# Altium footprint library APSS Flight Parts.PcbLib: 80 footprints (part 3 of 5)
Each footprint in its own frame and in the unit in brackets; x right, y up, seen from the top. Pads: shape width x height; smd on the part's side, far side on the other; paste and mask are expansions set on the pad; w line width, h text height; cw(c..) or ccw(c..) is an arc to the next point about the centre after c.
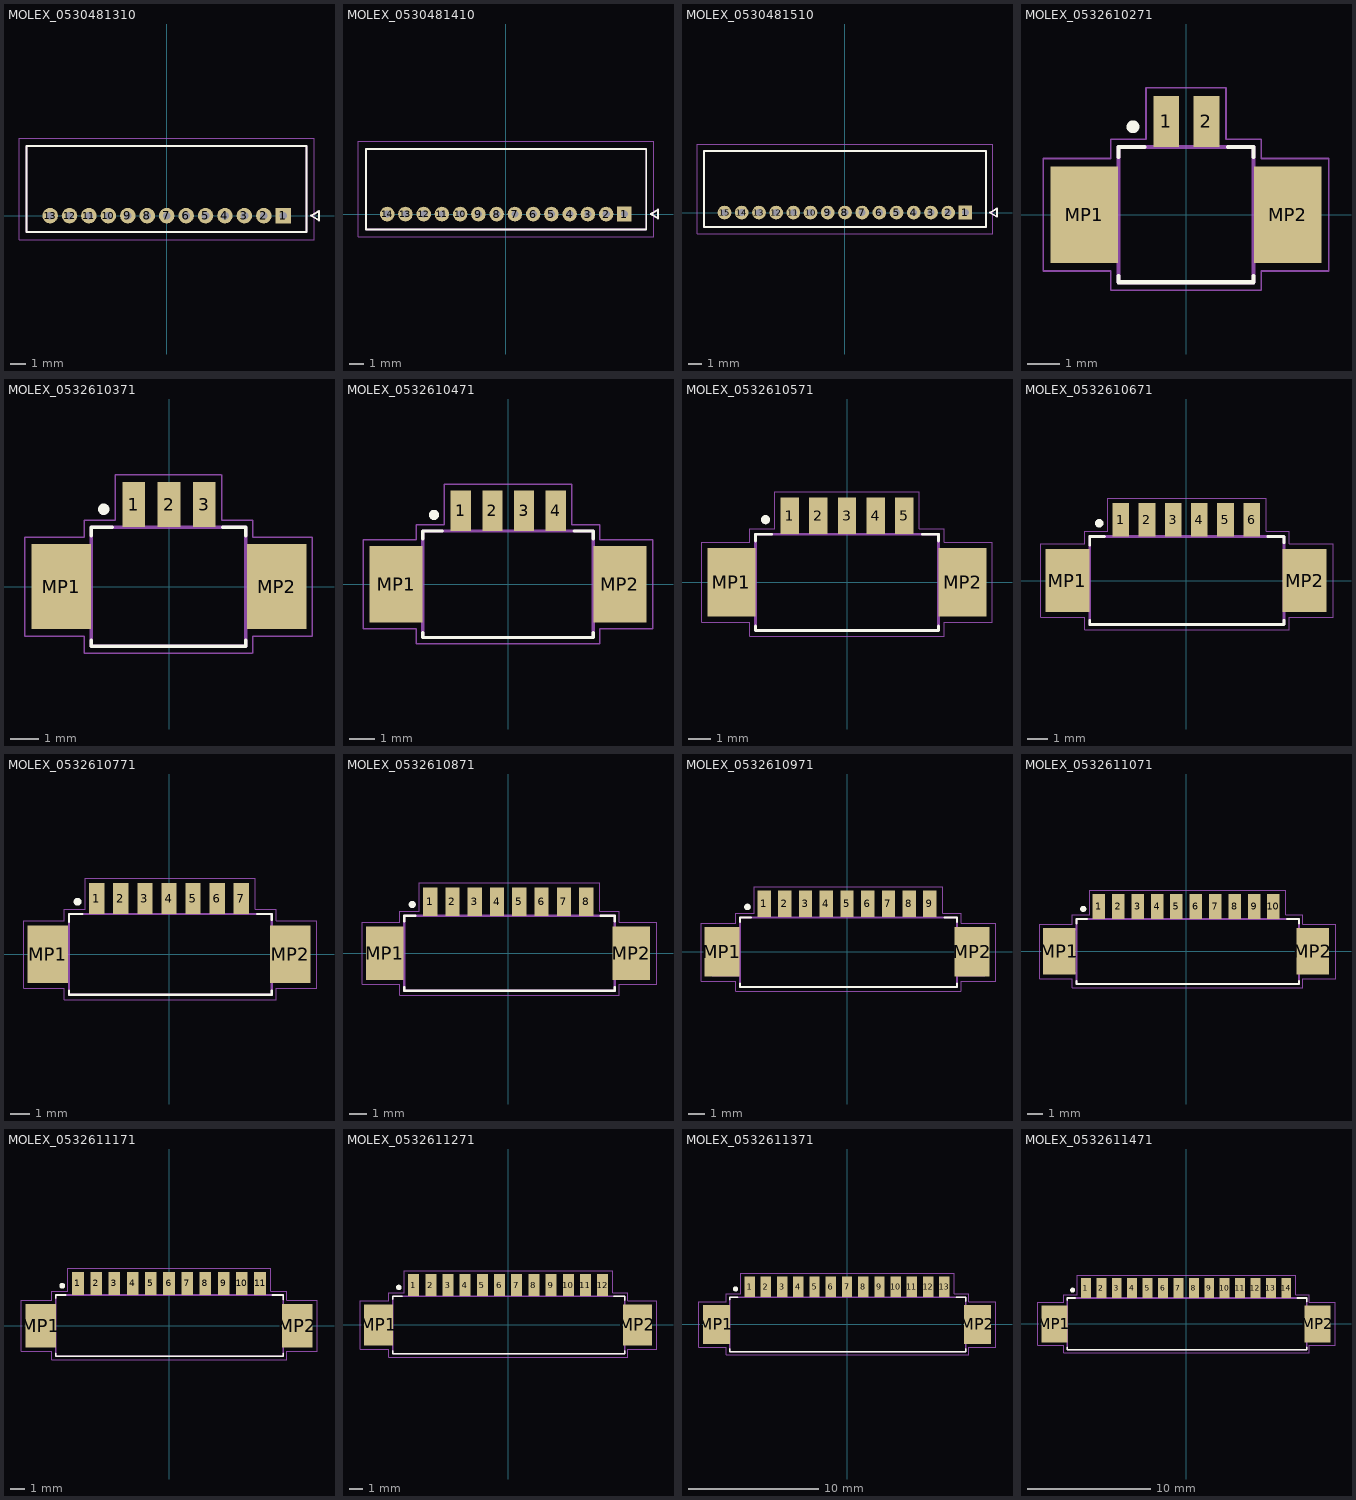
[diagram p2: the footprints below, top view; thin cyan lines are the x and y axes]

## MOLEX_0530481310 [mm] "Header - Picoblade 13-pin, TH, RA, 4.2mm height"
height 4.2
pads (13):
  rect 1x1 hole 0.5 mask+0.051: 1(7.5,0)
  round 1 hole 0.5 mask+0.051: 2(6.25,0) 3(5,0) 4(3.75,0) 5(2.5,0) 6(1.25,0) 7(0,0) 8(-1.25,0) 9(-2.5,0) 10(-3.75,0) 11(-5,0) 12(-6.25,0) 13(-7.5,0)
Top Overlay:
  lines w0.127: -9.01,-1.041 -9.01,4.47 9,4.47 9,-1.041 -9.01,-1.041 ; 9.3,0 9.8,0.3 9.8,-0.3 9.3,0
Mechanical 13:
  lines w0.127: -9.01,-1.041 -9.01,4.47 9,4.47 9,-1.041 -9.01,-1.041 ; 9.3,0 9.8,0.3 9.8,-0.3 9.3,0
Mechanical 15:
  lines w0.05: -9.5,-1.541 -9.5,4.97 9.5,4.97 9.5,-1.541 -9.5,-1.541
3D body "530481310.stp": height 3.51, standoff -2.29, extent -9.001,-1.041 8.999,4.459

## MOLEX_0530481410 [mm]
height 3.5
pads (14):
  rect 1x1 hole 0.5 mask+0.051: 1(8.125,0)
  round 1 hole 0.5 mask+0.051: 2(6.875,0) 3(5.625,0) 4(4.375,0) 5(3.125,0) 6(1.875,0) 7(0.625,0) 8(-0.625,0) 9(-1.875,0) 10(-3.125,0) 11(-4.375,0) 12(-5.625,0) 13(-6.875,0) 14(-8.125,0)
Top Overlay:
  lines w0.127: -9.575,-1.05 9.625,-1.05 9.625,4.45 -9.575,4.45 -9.575,-1.05 ; 9.925,0 10.425,-0.3 10.425,0.3 9.925,0
Mechanical 13:
  lines w0.127: -9.575,-1.05 9.625,-1.05 9.625,4.45 -9.575,4.45 -9.575,-1.05 ; 9.925,0 10.425,-0.3 10.425,0.3 9.925,0
Mechanical 15:
  lines w0.05: -10.125,-1.541 -10.125,4.97 10.125,4.97 10.125,-1.541 -10.125,-1.541
3D body "530481410.stp": height 3.56, standoff -2.23, extent -9.6,-1.05 9.65,4.45

## MOLEX_0530481510 [mm] "Header - Picoblade 15-pin, TH, RA, 4.2mm height"
height 4.2
pads (15):
  rect 1x1 hole 0.5 mask+0.051: 1(8.75,0)
  round 1 hole 0.5 mask+0.051: 2(7.5,0) 3(6.25,0) 4(5,0) 5(3.75,0) 6(2.5,0) 7(1.25,0) 8(0,0) 9(-1.25,0) 10(-2.5,0) 11(-3.75,0) 12(-5,0) 13(-6.25,0) 14(-7.5,0) 15(-8.75,0)
Top Overlay:
  lines w0.127: -10.249,-1.041 -10.249,4.47 10.25,4.47 10.25,-1.041 -10.249,-1.041 ; 10.55,0 11.05,-0.3 11.05,0.3 10.55,0
Mechanical 13:
  lines w0.127: -10.25,-1.041 -10.25,4.47 10.25,4.47 10.25,-1.041 -10.25,-1.041 ; 10.55,0 11.05,-0.3 11.05,0.3 10.55,0
Mechanical 15:
  lines w0.05: -10.75,-1.541 -10.75,4.97 10.75,4.97 10.75,-1.541 -10.75,-1.541
3D body "530481510.stp": height 3.51, standoff -2.29, extent -10.251,-1.048 10.249,4.452

## MOLEX_0532610271 [mm] "Header - Picoblade 02-pin, SMT, RA, 3.4mm height"
height 3.4
pads (4):
  rect 0.8x1.6 smd mask+0.051: 1(-0.625,2.9) 2(0.625,2.9)
  rect 2.1x3 smd mask+0.051: MP1(-3.175,0) MP2(3.155,0)
Top Overlay:
  circle w0.2: c-1.661,2.735 r0.1
  lines w0.127: -2.106,1.8 -2.106,2.1 -1.3,2.1 ; -2.105,-1.9 -2.105,-2.1 2.085,-2.1 2.085,-1.9 ; 1.3,2.1 2.085,2.1 2.085,1.8
Mechanical 13:
  lines w0.127: -2.106,2.1 2.085,2.1 2.085,1.4 ; -2.105,2.1 -2.105,1.4 ; -2.105,-1.4 -3.805,-1.4 -3.805,1.4 -2.105,1.4 ; -2.105,-1.4 -2.105,-2.1 2.085,-2.1 2.085,-1.4 ; -2.105,-1.4 -2.105,1.4 ; 2.085,-1.4 3.785,-1.4 3.785,1.4 2.085,1.4 ; 2.085,-1.4 2.085,1.4
Mechanical 15:
  lines w0.05: -2.355,-2.35 -2.355,-1.75 -4.455,-1.75 -4.455,1.75 -2.355,1.75 -2.355,2.35 -1.255,2.35 -1.255,3.95 ; -2.35,-2.35 2.325,-2.35 ; -1.25,3.95 1.225,3.95 ; 1.235,3.95 1.235,2.35 2.335,2.35 2.335,1.75 4.435,1.75 4.435,-1.75 2.335,-1.75 2.335,-2.35
3D body "0532610271--3DModel-STEP-269445.STEP": height 3.4, standoff 0, extent -3.825,-2.1 3.825,3.1

## MOLEX_0532610371 [mm] "Header - Picoblade 03-pin, SMT, RA, 3.4mm height"
height 3.4
pads (5):
  rect 0.8x1.6 smd mask+0.051: 1(-1.25,2.9) 2(0,2.9) 3(1.25,2.9)
  rect 2.1x3 smd mask+0.051: MP1(-3.8,0) MP2(3.8,0)
Top Overlay:
  circle w0.2: c-2.306,2.735 r0.1
  lines w0.127: -2.751,1.8 -2.751,2.1 -2,2.1 ; -2.75,-1.9 -2.75,-2.1 2.71,-2.1 2.71,-1.9 ; 1.9,2.1 2.71,2.1 2.71,1.8
Mechanical 13:
  lines w0.127: -2.75,-1.4 -2.75,1.4 ; -2.75,-1.4 -2.75,-2.1 2.71,-2.1 2.71,-1.4 ; -2.75,-1.4 -4.45,-1.4 -4.45,1.4 -2.75,1.4 ; -2.75,1.4 -2.75,2.1 2.71,2.1 2.71,1.4 ; 2.71,-1.4 2.71,1.4 ; 2.71,-1.4 4.41,-1.4 4.41,1.4 2.71,1.4
Mechanical 15:
  lines w0.05: 1.85,3.95 -1.9,3.95 -1.9,2.35 -3,2.35 -3,1.75 -5.1,1.75 -5.1,-1.75 -3,-1.75 -3,-2.35 2.95,-2.35 ; 1.86,3.95 1.86,2.35 2.96,2.35 2.96,1.75 5.06,1.75 5.06,-1.75 2.96,-1.75 2.96,-2.35
3D body "0532610371.step": height 3.42, standoff 0.02, extent -4.45,-2.1 4.45,3.1

## MOLEX_0532610471 [mm] "Header - Picoblade 04-pin, SMT, RA, 3.4mm height"
height 3.4
pads (6):
  rect 0.8x1.6 smd mask+0.051: 1(-1.875,2.9) 2(-0.625,2.9) 3(0.625,2.9) 4(1.875,2.9)
  rect 2.1x3 smd mask+0.051: MP1(-4.425,0) MP2(4.405,0)
Top Overlay:
  circle w0.2: c-2.931,2.735 r0.1
  lines w0.127: -3.376,1.8 -3.376,2.1 -2.6,2.1 ; -3.375,-1.9 -3.375,-2.1 3.35,-2.1 ; 2.6,2.1 3.355,2.1 3.355,1.8 ; 3.355,-2.1 3.355,-1.9
Mechanical 13:
  lines w0.127: 3.35,-2.1 -3.375,-2.1 -3.375,-1.4 ; 3.35,2.1 -3.375,2.1 -3.375,1.4 ; 3.355,-2.1 3.355,-1.4 ; 3.355,2.1 3.355,1.4 ; -3.375,-1.4 -5.075,-1.4 -5.075,1.4 -3.375,1.4 ; -3.375,-1.4 -3.375,1.4 ; 3.355,-1.4 5.055,-1.4 5.055,1.4 3.355,1.4 ; 3.355,-1.4 3.355,1.4
Mechanical 15:
  lines w0.05: 2.5,3.95 -2.525,3.95 -2.525,2.35 -3.625,2.35 -3.625,1.75 -5.725,1.75 -5.725,-1.75 -3.625,-1.75 -3.625,-2.35 3.6,-2.35 ; 2.505,3.95 2.505,2.35 3.605,2.35 3.605,1.75 5.705,1.75 5.705,-1.75 3.605,-1.75 3.605,-2.35
3D body "0532610471--3DModel-STEP-269445.STEP": height 3.4, standoff -0.05, extent -5.075,-2.1 5.075,3.1

## MOLEX_0532610571 [mm] "Header - Picoblade 05-pin, SMT, RA, 3.4mm height"
height 3.4
pads (7):
  rect 0.8x1.6 smd mask+0.051: 1(-2.5,2.9) 2(-1.25,2.9) 3(0,2.9) 4(1.25,2.9) 5(2.5,2.9)
  rect 2.1x3 smd mask+0.051: MP1(-5.05,0) MP2(5.05,0)
Top Overlay:
  circle w0.2: c-3.556,2.735 r0.1
  lines w0.127: -4,-1.9 -4,-2.1 4,-2.1 4,-1.9 ; -4.001,1.8 -4.001,2.1 -3.3,2.1 ; 3.3,2.1 4,2.1 4,1.8
Mechanical 13:
  lines w0.127: -4,-1.4 -4,1.4 ; -4,-1.4 -4,-2.1 4,-2.1 4,-1.4 ; -4,-1.4 -5.7,-1.4 -5.7,1.4 -4,1.4 ; -4,1.4 -4,2.1 4,2.1 4,1.4 ; 4,-1.4 4,1.4 ; 4,-1.4 5.7,-1.4 5.7,1.4 4,1.4
Mechanical 15:
  lines w0.05: -6.35,-1.75 -6.35,1.75 -4.25,1.75 -4.25,2.35 -3.15,2.35 -3.15,3.95 3.15,3.95 3.15,2.35 4.25,2.35 4.25,1.75 6.35,1.75 6.35,-1.75 4.25,-1.75 4.25,-2.35 -4.25,-2.35 -4.25,-1.75 -6.35,-1.75
3D body "0532610571.STEP": height 3.41, standoff 0.01, extent -5.711,-2.002 5.689,3.198

## MOLEX_0532610671 [mm] "Header - Picoblade 06-pin, SMT, RA, 3.4mm height"
height 3.4
pads (8):
  rect 0.8x1.6 smd mask+0.051: 1(-3.125,2.9) 2(-1.875,2.9) 3(-0.625,2.9) 4(0.625,2.9) 5(1.875,2.9) 6(3.125,2.9)
  rect 2.1x3 smd mask+0.051: MP1(-5.675,0) MP2(5.655,0)
Top Overlay:
  circle w0.2: c-4.156,2.735 r0.1
  lines w0.127: -4.601,1.7 -4.601,2.1 -3.9,2.1 ; -4.6,-1.9 -4.6,-2.1 4.67,-2.1 4.67,-1.9 ; 3.9,2.1 4.67,2.1 4.67,1.8
Mechanical 13:
  lines w0.127: -4.6,-1.4 -4.6,1.4 ; -4.6,-1.4 -4.6,-2.1 4.67,-2.1 4.67,-1.4 ; -4.6,-1.4 -6.3,-1.4 -6.3,1.4 -4.6,1.4 ; -4.6,1.4 -4.6,2.1 4.67,2.1 4.67,1.4 ; 4.67,-1.4 4.67,1.4 ; 4.67,-1.4 6.37,-1.4 6.37,1.4 4.67,1.4
Mechanical 15:
  lines w0.05: 4.92,-2.35 4.92,-1.75 7.02,-1.75 7.02,1.75 4.92,1.75 4.92,2.35 3.82,2.35 3.82,3.93 -3.75,3.93 -3.75,2.35 -4.85,2.35 -4.85,1.75 -6.95,1.75 -6.95,-1.75 -4.85,-1.75 -4.85,-2.35 4.925,-2.35
3D body "53261-0671--3DModel-STEP-361473.STEP": height 3.38, standoff -0.02, extent -6.325,-2.1 6.325,3.1

## MOLEX_0532610771 [mm] "Header - Picoblade 07-pin, SMT, RA, 3.4mm height"
height 3.4
pads (9):
  rect 0.8x1.6 smd mask+0.051: 1(-3.75,2.9) 2(-2.5,2.9) 3(-1.25,2.9) 4(0,2.9) 5(1.25,2.9) 6(2.5,2.9) 7(3.75,2.9)
  rect 2.1x3 smd mask+0.051: MP1(-6.3,0) MP2(6.3,0)
Top Overlay:
  circle w0.2: c-4.756,2.735 r0.1
  lines w0.127: -5.201,1.7 -5.201,2.1 -4.5,2.1 ; -5.2,-1.9 -5.2,-2.1 5.34,-2.1 5.34,-1.9 ; 4.6,2.1 5.34,2.1 5.34,1.8
Mechanical 13:
  lines w0.127: -5.2,-1.4 -6.9,-1.4 -6.9,1.4 -5.2,1.4 ; -5.2,-1.4 -5.2,-2.1 5.34,-2.1 5.34,-1.4 ; -5.2,-1.4 -5.2,1.4 ; -5.2,1.4 -5.2,2.1 5.34,2.1 5.34,1.4 ; 5.34,-1.4 7.04,-1.4 7.04,1.4 5.34,1.4 ; 5.34,-1.4 5.34,1.4
Mechanical 15:
  lines w0.05: -7.55,-1.75 -5.45,-1.75 -5.45,-2.35 5.59,-2.35 5.59,-1.75 7.69,-1.75 7.69,1.75 5.59,1.75 5.59,2.35 4.49,2.35 4.49,3.95 -4.35,3.95 -4.35,2.35 -5.45,2.35 -5.45,1.75 -7.55,1.75 -7.55,-1.75
3D body "0532610771--3DModel-STEP-361473.STEP": height 3.41, standoff 0.01, extent -6.975,-2.151 6.925,3.049

## MOLEX_0532610871 [mm] "Header - Picoblade 08-pin, SMT, RA, 3.4mm height"
height 3.4
pads (10):
  rect 0.8x1.6 smd mask+0.051: 1(-4.375,2.9) 2(-3.125,2.9) 3(-1.875,2.9) 4(-0.625,2.9) 5(0.625,2.9) 6(1.875,2.9) 7(3.125,2.9) 8(4.375,2.9)
  rect 2.1x3 smd mask+0.051: MP1(-6.925,0) MP2(6.905,0)
Top Overlay:
  circle w0.2: c-5.381,2.735 r0.1
  lines w0.127: -5.825,-1.9 -5.825,-2.1 5.985,-2.1 5.985,-1.9 ; -5.826,1.8 -5.826,2.1 -5.2,2.1 ; 5.2,2.1 5.985,2.1 5.985,1.8
Mechanical 13:
  lines w0.127: -5.825,-1.4 -5.825,1.4 ; -5.825,-1.4 -5.825,-2.1 5.985,-2.1 5.985,-1.4 ; -5.825,-1.4 -7.525,-1.4 -7.525,1.4 -5.825,1.4 ; -5.825,1.4 -5.825,2.1 5.985,2.1 5.985,1.4 ; 5.985,-1.4 5.985,1.4 ; 5.985,-1.4 7.685,-1.4 7.685,1.4 5.985,1.4
Mechanical 15:
  lines w0.05: -8.175,-1.75 -8.175,1.75 -6.075,1.75 -6.075,2.35 -4.975,2.35 -4.975,3.95 5.135,3.95 5.135,2.35 6.235,2.35 6.235,1.75 8.335,1.75 8.335,-0.92 8.335,-1.75 6.235,-1.75 6.235,-2.35 -6.075,-2.35 -6.075,-1.75 -8.175,-1.75
3D body "0532610871--3DModel-STEP-361473.STEP": height 3.42, standoff 0.02, extent -7.575,-2.1 7.575,3.1

## MOLEX_0532610971 [mm] "Header - Picoblade 09-pin, SMT, RA, 3.4mm height"
height 3.4
pads (11):
  rect 0.8x1.6 smd mask+0.051: 1(-5,2.9) 2(-3.75,2.9) 3(-2.5,2.9) 4(-1.25,2.9) 5(0,2.9) 6(1.25,2.9) 7(2.5,2.9) 8(3.75,2.9) 9(5,2.9)
  rect 2.1x3 smd mask+0.051: MP1(-7.55,0) MP2(7.55,0)
Top Overlay:
  circle w0.2: c-6.006,2.71 r0.1
  lines w0.127: -6.451,1.8 -6.451,2.075 -5.8,2.075 ; -6.45,-1.9 -6.45,-2.125 6.63,-2.125 6.63,-1.9 ; 5.9,2.075 6.63,2.075 6.63,1.8
Mechanical 13:
  lines w0.127: -6.45,-1.425 -8.15,-1.425 -8.15,1.375 -6.45,1.375 ; -6.45,-1.425 -6.45,-2.125 6.63,-2.125 6.63,-1.425 ; -6.45,-1.425 -6.45,1.375 ; -6.45,1.375 -6.45,2.075 6.63,2.075 6.63,1.375 ; 6.63,-1.425 8.33,-1.425 8.33,1.375 6.63,1.375 ; 6.63,-1.425 6.63,1.375
Mechanical 15:
  lines w0.05: 5.775,3.925 -5.6,3.925 -5.6,2.325 -6.7,2.325 -6.7,1.725 -8.8,1.725 -8.8,-1.775 -6.7,-1.775 -6.7,-2.375 6.875,-2.375 ; 5.78,3.925 5.78,2.325 6.88,2.325 6.88,1.725 8.98,1.725 8.98,-1.775 6.88,-1.775 6.88,-2.375
3D body "0532610971.stp": height 3.41, standoff 0.01, extent -8.2,-2.091 8.2,3.109

## MOLEX_0532611071 [mm] "Header - Picoblade 10-pin, SMT, RA, 3.4mm height"
height 3.4
pads (12):
  rect 0.8x1.6 smd mask+0.051: 1(-5.625,2.9) 2(-4.375,2.9) 3(-3.125,2.9) 4(-1.875,2.9) 5(-0.625,2.9) 6(0.625,2.9) 7(1.875,2.9) 8(3.125,2.9) 9(4.375,2.9) 10(5.625,2.9)
  rect 2.1x3 smd mask+0.051: MP1(-8.175,0) MP2(8.155,0)
Top Overlay:
  circle w0.2: c-6.631,2.735 r0.1
  lines w0.127: -7.076,1.8 -7.076,2.1 -6.4,2.1 ; -7.075,-1.9 -7.075,-2.1 7.275,-2.1 7.275,-1.9 ; 6.5,2.1 7.275,2.1 7.275,1.8
Mechanical 13:
  lines w0.127: -7.075,-1.4 -8.775,-1.4 -8.775,1.4 -7.075,1.4 ; -7.075,-1.4 -7.075,-2.1 7.275,-2.1 7.275,-1.4 ; -7.075,-1.4 -7.075,1.4 ; -7.075,1.4 -7.075,2.1 7.275,2.1 7.275,1.4 ; 7.275,-1.4 8.975,-1.4 8.975,1.4 7.275,1.4 ; 7.275,-1.4 7.275,1.4
Mechanical 15:
  lines w0.05: -9.425,-1.75 -7.325,-1.75 -7.325,-2.35 7.525,-2.35 7.525,-1.75 9.625,-1.75 9.625,1.75 7.525,1.75 7.525,2.35 6.425,2.35 6.425,3.95 -6.225,3.95 -6.225,2.35 -7.325,2.35 -7.325,1.75 -9.425,1.75 -9.425,-1.75
3D body "0532611071--3DModel-STEP-361473.STEP": height 3.42, standoff 0.02, extent -8.825,-2.1 8.825,3.1

## MOLEX_0532611171 [mm] "Header - Picoblade 11-pin, SMT, RA, 3.4mm height"
height 3.4
pads (13):
  rect 0.8x1.6 smd mask+0.051: 1(-6.25,2.9) 2(-5,2.9) 3(-3.75,2.9) 4(-2.5,2.9) 5(-1.25,2.9) 6(0,2.9) 7(1.25,2.9) 8(2.5,2.9) 9(3.75,2.9) 10(5,2.9) 11(6.25,2.9)
  rect 2.1x3 smd mask+0.051: MP1(-8.8,0) MP2(8.8,0)
Top Overlay:
  circle w0.2: c-7.331,2.735 r0.1
  lines w0.127: -7.776,1.9 -7.776,2.1 -7.1,2.1 ; -7.775,-1.9 -7.775,-2.1 7.845,-2.1 7.845,-1.9 ; 7.1,2.1 7.845,2.1 7.845,1.8
Mechanical 13:
  lines w0.127: -7.775,-1.4 -7.775,1.4 ; -7.775,-1.4 -7.775,-2.1 7.845,-2.1 7.845,-1.4 ; -7.775,-1.4 -9.475,-1.4 -9.475,1.4 -7.775,1.4 ; -7.775,1.4 -7.775,2.1 7.845,2.1 7.845,1.4 ; 7.845,-1.4 7.845,1.4 ; 7.845,-1.4 9.545,-1.4 9.545,1.4 7.845,1.4
Mechanical 15:
  lines w0.05: -10.15,-1.75 -10.15,1.75 -8.05,1.75 -8.05,2.35 -6.95,2.35 -6.95,3.95 6.97,3.95 6.97,2.35 8.07,2.35 8.07,1.75 10.17,1.75 10.17,-1.75 8.07,-1.75 8.07,-2.35 -8.05,-2.35 -8.05,-1.75 -10.15,-1.75
3D body "0532611171.stp": height 3.41, standoff 0.01, extent -9.449,-2.1 9.451,3.1

## MOLEX_0532611271 [mm] "Header - Picoblade 12-pin, SMT, RA, 3.4mm height"
height 3.4
pads (14):
  rect 0.8x1.6 smd mask+0.051: 1(-6.875,2.9) 2(-5.625,2.9) 3(-4.375,2.9) 4(-3.125,2.9) 5(-1.875,2.9) 6(-0.625,2.9) 7(0.625,2.9) 8(1.875,2.9) 9(3.125,2.9) 10(4.375,2.9) 11(5.625,2.9) 12(6.875,2.9)
  rect 2.1x3 smd mask+0.051: MP1(-9.425,0) MP2(9.405,0)
Top Overlay:
  circle w0.2: c-7.956,2.735 r0.1
  lines w0.127: -8.401,1.9 -8.401,2.1 -7.7,2.1 ; -8.4,-1.9 -8.4,-2.1 8.49,-2.1 8.49,-1.9 ; 7.7,2.1 8.49,2.1 8.49,1.8
Mechanical 13:
  lines w0.127: -8.4,-1.4 -10.1,-1.4 -10.1,1.4 -8.4,1.4 ; -8.4,-1.4 -8.4,-2.1 8.49,-2.1 8.49,-1.4 ; -8.4,-1.4 -8.4,1.4 ; -8.4,1.4 -8.4,2.1 8.49,2.1 8.49,1.4 ; 8.49,-1.4 10.19,-1.4 10.19,1.4 8.49,1.4 ; 8.49,-1.4 8.49,1.4
Mechanical 15:
  lines w0.05: 7.6,3.95 -7.575,3.95 -7.575,2.35 -8.675,2.35 -8.675,1.75 -10.775,1.75 -10.775,-1.75 -8.675,-1.75 -8.675,-2.35 8.715,-2.35 8.715,-1.75 10.815,-1.75 10.815,1.75 8.715,1.75 8.715,2.35 7.615,2.35 7.615,3.95
3D body "0532611271--3DModel-STEP-231308.STEP": height 3.42, standoff 0.02, extent -10.075,-2.1 10.075,3.1

## MOLEX_0532611371 [mm] "Header - Picoblade 13-pin, SMT, RA, 3.4mm height"
height 3.4
pads (15):
  rect 0.8x1.6 smd mask+0.051: 1(-7.5,2.9) 2(-6.25,2.9) 3(-5,2.9) 4(-3.75,2.9) 5(-2.5,2.9) 6(-1.25,2.9) 7(0,2.9) 8(1.25,2.9) 9(2.5,2.9) 10(3.75,2.9) 11(5,2.9) 12(6.25,2.9) 13(7.5,2.9)
  rect 2.1x3 smd mask+0.051: MP1(-10.05,0) MP2(10.05,0)
Top Overlay:
  circle w0.2: c-8.581,2.735 r0.1
  lines w0.127: -9.026,1.9 -9.026,2.1 -8.4,2.1 ; -9.025,-1.9 -9.025,-2.1 9.135,-2.1 9.135,-1.9 ; 8.4,2.1 9.135,2.1 9.135,1.8
Mechanical 13:
  lines w0.127: -9.025,-1.4 -9.025,1.4 ; -9.025,-1.4 -9.025,-2.1 9.135,-2.1 9.135,-1.4 ; -9.025,-1.4 -10.725,-1.4 -10.725,1.4 -9.025,1.4 ; -9.025,1.4 -9.025,2.1 9.135,2.1 9.135,1.4 ; 9.135,-1.4 9.135,1.4 ; 9.135,-1.4 10.835,-1.4 10.835,1.4 9.135,1.4
Mechanical 15:
  lines w0.05: -11.4,-1.75 -11.4,1.75 -9.3,1.75 -9.3,2.35 -8.2,2.35 -8.2,3.95 8.26,3.95 8.26,2.35 9.36,2.35 9.36,1.75 11.46,1.75 11.46,-1.75 9.36,-1.75 9.36,-2.35 -9.3,-2.35 -9.3,-1.75 -11.4,-1.75
3D body "0532611371.stp": height 3.41, standoff 0.01, extent -10.694,-2.109 10.707,3.091

## MOLEX_0532611471 [mm] "Header - Picoblade 14-pin, SMT, RA, 3.4mm height"
height 3.4
pads (16):
  rect 0.8x1.6 smd mask+0.051: 1(-8.125,2.9) 2(-6.875,2.9) 3(-5.625,2.9) 4(-4.375,2.9) 5(-3.125,2.9) 6(-1.875,2.9) 7(-0.625,2.9) 8(0.625,2.9) 9(1.875,2.9) 10(3.125,2.9) 11(4.375,2.9) 12(5.625,2.9) 13(6.875,2.9) 14(8.125,2.9)
  rect 2.1x3 smd mask+0.051: MP1(-10.675,0) MP2(10.655,0)
Top Overlay:
  circle w0.2: c-9.206,2.735 r0.1
  lines w0.127: -9.651,1.9 -9.651,2.1 -9,2.1 ; -9.65,-1.9 -9.65,-2.1 9.78,-2.1 9.78,-1.9 ; 9,2.1 9.78,2.1 9.78,1.8
Mechanical 13:
  lines w0.127: -9.65,-1.4 -9.65,1.4 ; -9.65,-1.4 -9.65,-2.1 9.78,-2.1 9.78,-1.4 ; -9.65,-1.4 -11.35,-1.4 -11.35,1.4 -9.65,1.4 ; -9.65,1.4 -9.65,2.1 9.78,2.1 9.78,1.4 ; 9.78,-1.4 9.78,1.4 ; 9.78,-1.4 11.48,-1.4 11.48,1.4 9.78,1.4
Mechanical 15:
  lines w0.05: 10,-2.35 -9.925,-2.35 -9.925,-1.75 -12.025,-1.75 -12.025,1.75 -9.925,1.75 -9.925,2.35 -8.825,2.35 -8.825,3.95 8.905,3.95 8.905,2.35 10.005,2.35 10.005,1.75 12.105,1.75 12.105,-1.75 10.005,-1.75 10.005,-2.35
3D body "0532611471--3DModel-STEP-361473.STEP": height 3.42, standoff 0.02, extent -11.325,-2.1 11.325,3.1